# Altium schematic symbol library DIOD-SCHOTTKY.SchLib: 1 symbol
Pins are listed as number, name and electrical type; pins without a type are passive.

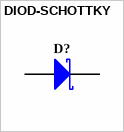
[diagram p0: symbol DIOD-SCHOTTKY]

## DIOD-SCHOTTKY
designator D?
pins: 1 K, 2 A